# EAGLE library part TDA7376B (library Audio-Power-amlifier V.2.0)
The TDA7376B is a new technology dual bridge Audio Amplifier in Multiwatt 15 package designed for car radio applications. Thanks to the fully complementary PNP/NPN output stage configuration the TDA7376B delivers a rail-to-rail voltage swing with no need of bootstrap capacitors. Differential input pairs, that will accept either single ended or differential input signals, guarantee high noise immunity making the device suitable for both car radio and car boosters applications.
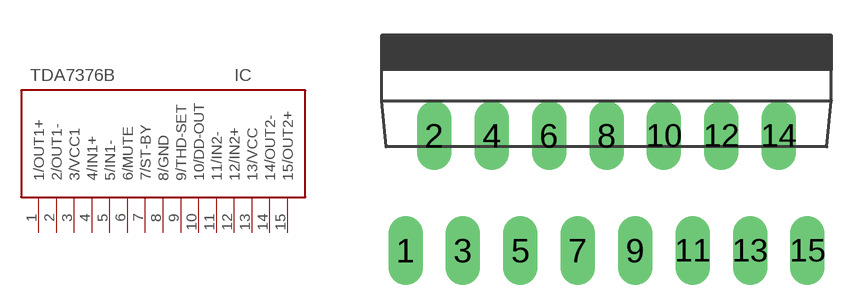
[diagram p128: symbol with the pads of MULTIWATT-15V; footprint MULTIWATT-15V]

Designator prefix IC

## TDA7376B  [MULTIWATT-15V]
1  1/OUT1+  out
2  2/OUT1-  out
3  3/VCC1  pwr
4  4/IN1+  in
5  5/IN1-  in
6  6/MUTE  in
7  7/ST-BY  in
8  8/GND  pwr
9  9/THD-SET
10  10/DD-OUT  out
11  11/IN2-  in
12  12/IN2+  pwr
13  13/VCC  out
14  14/OUT2-  out
15  15/OUT2+  out

## Footprint MULTIWATT-15V (pad centres in mm)
Multiwatt 15 vertical
drill 1.016 long: 1 -8.89,-5.08; 2 -7.62,0; 3 -6.35,-5.08; 4 -5.08,0; 5 -3.81,-5.08; 6 -2.54,0; 7 -1.27,-5.08; 8 0,0; 9 1.27,-5.08; 10 2.54,0; 11 3.81,-5.08; 12 5.08,0; 13 6.35,-5.08; 14 7.62,0; 15 8.89,-5.08